# EAGLE library part 18_PIN_ROW (library Connectors)
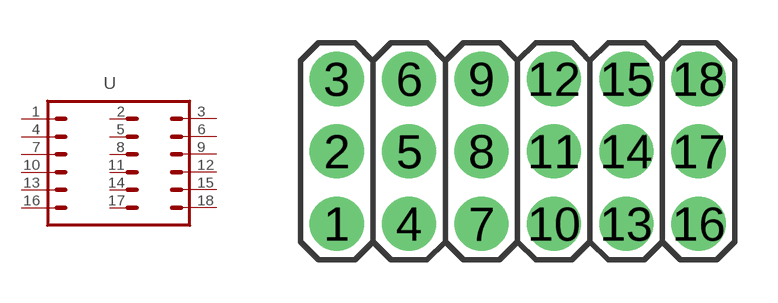
[diagram p8: symbol with the pads of 3X6; footprint 3X6]

Designator prefix -

## 18_PIN_ROW  [3X6]
1  1  pas
2  2  pas
3  3  pas
4  4  pas
5  5  pas
6  6  pas
7  7  pas
8  8  pas
9  9  pas
10  10  pas
11  11  pas
12  12  pas
13  13  pas
14  14  pas
15  15  pas
16  16  pas
17  17  pas
18  18  pas

## Footprint 3X6 (pad centres in mm)
drill 1.05 pad 1.9: 1 0,0; 2 0,2.54; 3 0,5.08; 5 2.54,2.54; 6 2.54,5.08; 8 5.08,2.54; 9 5.08,5.08; 11 7.62,2.54; 12 7.62,5.08; 14 10.16,2.54; 15 10.16,5.08; 17 12.7,2.54; 18 12.7,5.08
drill 1.016 pad 1.9: 4 2.54,0; 7 5.08,0; 10 7.62,0; 13 10.16,0; 16 12.7,0